# Altium schematic symbol library KM_ALTIUM.SchLib: 169 symbols
Pins are listed as number, name and electrical type; pins without a type are passive.

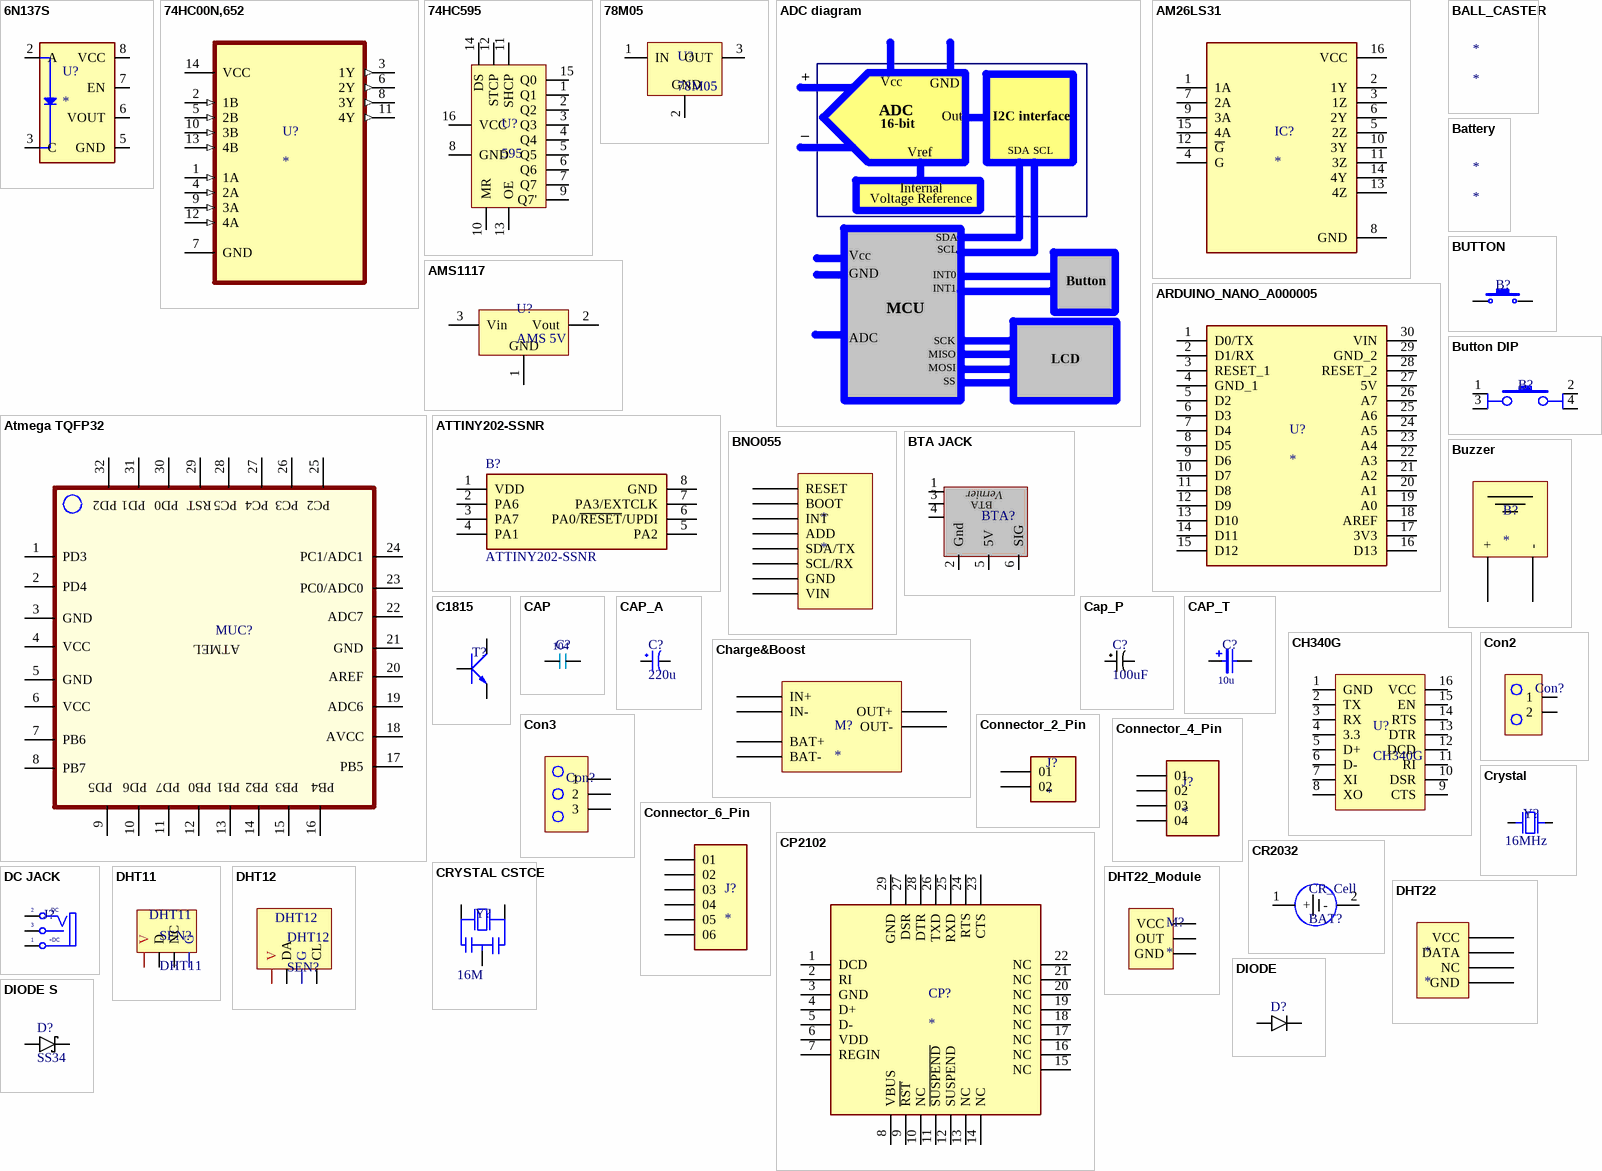
[diagram p0: symbols 6N137S to DIODE S]

## 6N137S
designator U?
Logic Output Optoisolator 15MBd Open Collector 5000Vrms 1 Channel 10kV/µs CMTI 8-SMD; MF: Lite-On Electronics; MP: 6N137S; SnapEDA_Link: https://www.snapeda.com/parts/6N137S/Applied+Avionics/view-part/?ref=snap; Package: SMD-8 Lite-On Inc.; Value: *; Check_prices: https://www.snapeda.com/parts/6N137S/Applied+Avionics/view-part/?ref=eda
footprint 6N137SMD
pins: 2 A, 3 C, 5 GND, 6 VOUT, 7 EN, 8 VCC

## 74HC00N,652
designator U?
NAND Gate IC 4 Channel - 14-DIP; MF: NXP USA; MP: 74HC00N,652; SnapEDA_Link: https://www.snapeda.com/parts/74HC00N,652/NXP+Semiconductors/view-part/?ref=snap; Package: DIP-14 NXP Semiconductors; Value: *; Check_prices: https://www.snapeda.com/parts/74HC00N,652/NXP+Semiconductors/view-part/?ref=eda
footprint DIP254P762X420-14
pins: 1 1A (in), 2 1B (in), 3 1Y (out), 4 2A (in), 5 2B (in), 6 2Y (out), 7 GND, 8 3Y (out), 9 3A (in), 10 3B (in), 11 4Y (out), 12 4A (in), 13 4B (in), 14 VCC (power)

## 74HC595
designator U?, comment 595
footprint SOP16
pins: 1 Q1, 2 Q2, 3 Q3, 4 Q4, 5 Q5, 6 Q6, 7 Q7, 8 GND, 9 Q7', 10 MR, 11 SHCP, 12 STCP, 13 OE, 14 DS, 15 Q0, 16 VCC

## 78M05
designator U?
footprint TO252
pins: 1 IN, 2 GND, 3 OUT

## ADC diagram
designator D?, comment Dia_ADC  (value not drawn)
pins: 3 Vcc, 3 Vcc, 3 Vcc, 3 Vcc, 3 Vcc, 3 Vcc, 3 Vcc, 3 Vcc, 4 Vref, 5 Out, 5 Out, + 1, - 2
text: GND; ADC; I2C interface; 16-bit; _; SDA; SCL; Internal; Voltage Reference; INT0; Button; INT1; MCU; SCK; MISO; LCD; MOSI; SS

## AM26LS31
designator IC?
AM26LS31; Supplier 1: Mouser; Supplier Part Number 1: 595-AM26LS31CDRE4
footprint SOIC127P600X175-16N
pins: 1 1A, 2 1Y, 3 1Z, 4 G, 5 2Z, 6 2Y, 7 2A, 8 GND (power), 9 3A, 10 3Y, 11 3Z, 12 ~{G}, 13 4Z, 14 4Y, 15 4A, 16 VCC (power)

## AMS1117
designator U?, comment AMS 5V
footprint TO252
footprint SOT223
pins: 1 gnd, 2 Vout, 3 Vin
text: GND

## ARDUINO_NANO_A000005
designator U?
ATSAMD21G18A Arduino Nano 33 IoT series ARMÂ® CortexÂ®-M0+ MCU 32-Bit Embedded Evaluation Board; MP: ARDUINO NANO A000005; SnapEDA_Link: https://www.snapeda.com/parts/ARDUINO%20NANO%20A000005/Arduino/view-part/?ref=snap; Package: Non-Standard Arduino; Value: *; MF: Arduino; Check_prices: https://www.snapeda.com/parts/ARDUINO%20NANO%20A000005/Arduino/view-part/?ref=eda
footprint MODULE_ARDUINO_NANO_A000005
pins: 1 D0/TX, 2 D1/RX, 3 RESET_1, 4 GND_1, 5 D2, 6 D3, 7 D4, 8 D5, 9 D6, 10 D7, 11 D8, 12 D9, 13 D10, 14 D11, 15 D12, 16 D13, 17 3V3, 18 AREF, 19 A0, 20 A1, 21 A2, 22 A3, 23 A4, 24 A5, 25 A6, 26 A7, 27 5V, 28 RESET_2, 29 GND_2, 30 VIN

## Atmega TQFP32
designator MUC?, comment atmel  (value not drawn)
footprint TQFP32
pins: 1 PD3, 2 PD4, 3 GND, 4 VCC, 5 GND, 6 VCC, 7 PB6, 8 PB7, 9 PD5, 10 PD6, 11 PD7, 12 PB0/8, 13 PB1/9, 14 PB2/10, 15 PB3/11, 16 PB4/12, 17 PB5, 18 AVCC, 19 ADC6, 20 AREF, 21 GND, 22 ADC7, 23 PC0/ADC0, 24 PC1/ADC1, 25 PC2, 26 PC3, 27 PC4, 28 PC5, 29 RST, 30 PD0/RX, 31 PD1/TX, 32 PD2
text: PD1; PD0; ATMEL; PB0; PB1; PB2; PB3; PB4

## ATTINY202-SSNR
designator B?
8-bit Microcontrollers - MCU 20MHz, 2KB, SOIC8, Ind 105C, Green, T&R; Manufacturer_Name: Microchip; Geometry.Height: 1.75mm; Manufacturer_Part_Number: ATTINY202-SSNR; Mouser Part Number: 579-ATTINY202-SSNR; Mouser Price/Stock: https://www.mouser.co.uk/ProductDetail/Microchip-Technology/ATTINY202-SSNR?qs=y6ZabgHbY%252Bx90fzudZ0SuA%3D%3D; Arrow Part Number: ATTINY202-SSNR; Arrow Price/Stock: https://www.arrow.com/en/products/attiny202-ssnr/microchip-technology?utm_currency=USD&region=nac; Datasheet Link: http://ww1.microchip.com/downloads/en/DeviceDoc/ATtiny202-402-AVR-MCU-with-Core-Independent-Peripherals_and-picoPower-40001969A.pdf
footprint SOIC127P600X175-8N
pins: 1 VDD, 2 PA6, 3 PA7, 4 PA1, 5 PA2, 6 PA0/~{RESET}/UPDI, 7 PA3/EXTCLK, 8 GND

## BALL_CASTER
designator *
footprint Ball_caster

## Battery
designator *
footprint Lithium

## BNO055
designator *
footprint bno055
pins: ADD, BOOT, GND, INT, RESET, SCL SCL/RX, SDA SDA/TX, VIN

## BTA JACK
designator BTA?  (value not drawn)
footprint BTA
pins: 1, 2 Gnd, 3, 4, 5 5V, 6 SIG
text: Vernier; BTA

## BUTTON
designator B?
footprint BUTTON SM
footprint BUTTON 3x4x2
footprint BUTTON Right DIP
pins: 1, 2

## Button DIP
designator B?, comment Button  (value not drawn)
footprint Button 4 DIP
pins: 1, 2, 3, 4

## Buzzer
designator B?
footprint Buzzer_9mm (5.5x9mm)
footprint Buzzer_12mm
pins: +, -

## C1815
designator T?  (value not drawn)
footprint SOT23-3
footprint TO-92
pins: 1 B, 2 E, 3 C

## CAP
designator C?, comment 104
Value: 104
footprint CAP 0805
footprint CAP 0603
footprint CAP 1206
footprint CAP 0402
footprint CAPC3216X100N (Chip Capacitor, Body 3.2x1.6mm, 1.0mm H, EIA 1206, IPC Medium Density)
footprint CAPC3216X175N (Chip Capacitor, Body 3.2x1.6mm, 1.75mm H, EIA 1206, IPC Medium Density)
footprint CAPC3216X180N (Chip Capacitor, Body 3.2x1.6mm, 1.8mm H, EIA 1206, IPC Medium Density)
footprint CAPC500P450250X550 (TDK FK24 radial ceramic capacitor)
pins: 1, 2

## CAP_A
designator C?, comment 220u
Value: 220u
footprint CAP_A SIZE_F
footprint CAP_A SIZE_E
footprint CAP_A SIZE_G
footprint CAP_ELEC_5x5.7 (Capacitor, polarized, aluminum can; 5x5.7mm DxH)
footprint CAP_ELEC_6.3x4.2 (Capacitor, polarized, aluminum can; 6.3x4.2mm DxH)
footprint CAP_ELEC_SIZE_H13 (Capacitor, polarized, aluminum can; 12.5x13.5mm DxH)
pins: 1, 2

## Cap_P
designator C?, comment 100uF
Value: 100uF
footprint CAPAE250P680X1220_FLAT2
footprint CAP 5x11
footprint CAP_10X16
footprint super capacitor (KVR-5R0V155-R)
footprint CAPE10.0MM_Rad_30x45mm (10mm Pitch Radial Capacitor)
footprint CAPE3.5mm
footprint CAPE_5x11x2LS_RA (Capacitor, electrolytic, radial can, laid over)
footprint CAPAE200P550X1200_FLAT1
footprint CAPAE200P550X1200_FLAT2
footprint CAPAE250P680X1220_FLAT1
footprint CAPAE250P680X1220_VERT
footprint CAPE3.5-5.0MM_Rad_10x14mm (3.5 & 5.0mm Pitch Radial Capacitor 10x14mm DxH)
footprint CAPPRD350W60D800H1150
pins: 1, 2

## CAP_T
designator C?, comment 10u
Value: 10u
footprint CAP_T 3216 (1208)
footprint CAP_T 3528
footprint CAP_T 6032
footprint CAP_T 7343
pins: 1, 2

## CH340G
designator U?
footprint SOP16
pins: 1 GND, 2 TX, 3 RX, 4 3.3, 5 D+, 6 D-, 7 XI, 8 XO, 9 CTS, 10 DSR, 11 RI, 12 DCD, 13 DTR, 14 RTS, 15 EN, 16 VCC

## Charge&Boost
designator M?
footprint Charge&Boost
pins: BAT+, BAT-, IN+, IN-, OUT+, OUT-

## Con2
designator Con?  (value not drawn)
footprint Terminal - KF396
pins: 1, 2

## Con3
designator Con?  (value not drawn)
footprint Terminal- 3- 508
footprint DEGSON_3.81_3P (DEGSON)
pins: 1, 2, 3

## Connector_2_Pin
designator J?
Pluggable Header 3.81mm 16AWG 160V 8A 2 Position COMBICON MC Series | Phoenix Contact 1803277; SnapEDA_Link: https://www.snapeda.com/parts/1803277/Phoenix+Contact/view-part/?ref=snap; Package: None; Value: *; MF: Phoenix Contact; MP: 1803277; Check_prices: https://www.snapeda.com/parts/1803277/Phoenix+Contact/view-part/?ref=eda; Supplier 1: Arrow Electronics; Supplier Part Number 1: 1803277
footprint PHOENIX_1803277
footprint DEGSON_3.81_2P (2P)
pins: 01, 02

## Connector_4_Pin
designator J?
Pluggable Header 3.81mm 16AWG 160V 8A 4 Position COMBICON MC Series | Phoenix Contact 1803293; SnapEDA_Link: https://www.snapeda.com/parts/1803293/Phoenix+Contact/view-part/?ref=snap; Package: None; Value: *; MF: Phoenix Contact; MP: 1803293; Check_prices: https://www.snapeda.com/parts/1803293/Phoenix+Contact/view-part/?ref=eda
footprint PHOENIX_1803293
footprint DEGSON_3.81_4P (DEGSON)
pins: 01, 02, 03, 04

## Connector_6_Pin
designator J?
Pluggable Header 3.81mm 16AWG 160V 8A 6 Position COMBICON MC Series | Phoenix Contact 1803316; SnapEDA_Link: https://www.snapeda.com/parts/1803316/Phoenix+Contact/view-part/?ref=snap; Package: None; Value: *; MF: Phoenix Contact; MP: 1803316; Check_prices: https://www.snapeda.com/parts/1803316/Phoenix+Contact/view-part/?ref=eda; Supplier 1: Arrow Electronics; Supplier Part Number 1: 1803316
footprint PHOENIX_1803316
pins: 01, 02, 03, 04, 05, 06

## CP2102
designator CP?
Chip
footprint CP2102 (QFN-28)
pins: 1 DCD, 2 RI, 3 GND, 4 D+, 5 D-, 6 VDD, 7 REGIN, 8 VBUS, 9 ~{RST}, 10 NC, 11 ~{SUSPEND}, 12 SUSPEND, 13 NC, 14 NC, 15 NC, 16 NC, 17 NC, 18 NC, 19 NC, 20 NC, 21 NC, 22 NC, 23 CTS, 24 RTS, 25 RXD, 26 TXD, 27 DSR, 28 DTR, 29 GND

## CR2032
designator CR_Cell, comment BAT?
footprint CR2032 SM002
pins: 1 +, 2 -

## Crystal
designator Y?  value 16MHz  (hidden comment: Crystal)
footprint SM3215
footprint SM5032
pins: 1 IN, 2 OUT

## CRYSTAL CSTCE
designator Y?, comment value 16M  (hidden comment: Crystal_CSTCE)
footprint CRYSTAL CSTCE
pins: 1, 2, 3

## DC JACK
designator J?, comment DC 5.5  (value not drawn)
footprint DC 5.5
pins: 1 T "Tip", 2 TN "Tip Normal (Break Contact)", 3 S (power) "Sleeve (Ground)"
text: -DC; +DC

## DHT11
designator SEN?
footprint DHT11
pins: 1 V, 2 D, 3 NC, 4 G

## DHT12
designator DHT12, comment SEN?
footprint DHT11
pins: 1 V, 2 DA, 3 G, 4 CL

## DHT22
designator *
footprint DHT22 (AM2302)
pins: 1 VCC, 2 DATA, 3 NC, 4 GND

## DHT22_Module
designator M?
footprint DHT22_Module
pins: 1 GND, 2 OUT, 3 VCC

## DIODE
designator D?  (value not drawn)
footprint SOD 123
footprint SOD 323
footprint SOD80-1206
footprint BAT54
footprint 1N4148
pins: A, K

## DIODE S
designator D?, comment SS34
footprint DO214AC-SMA
footprint DO214AA-SMB
footprint DO214AB-SMC
pins: A, K

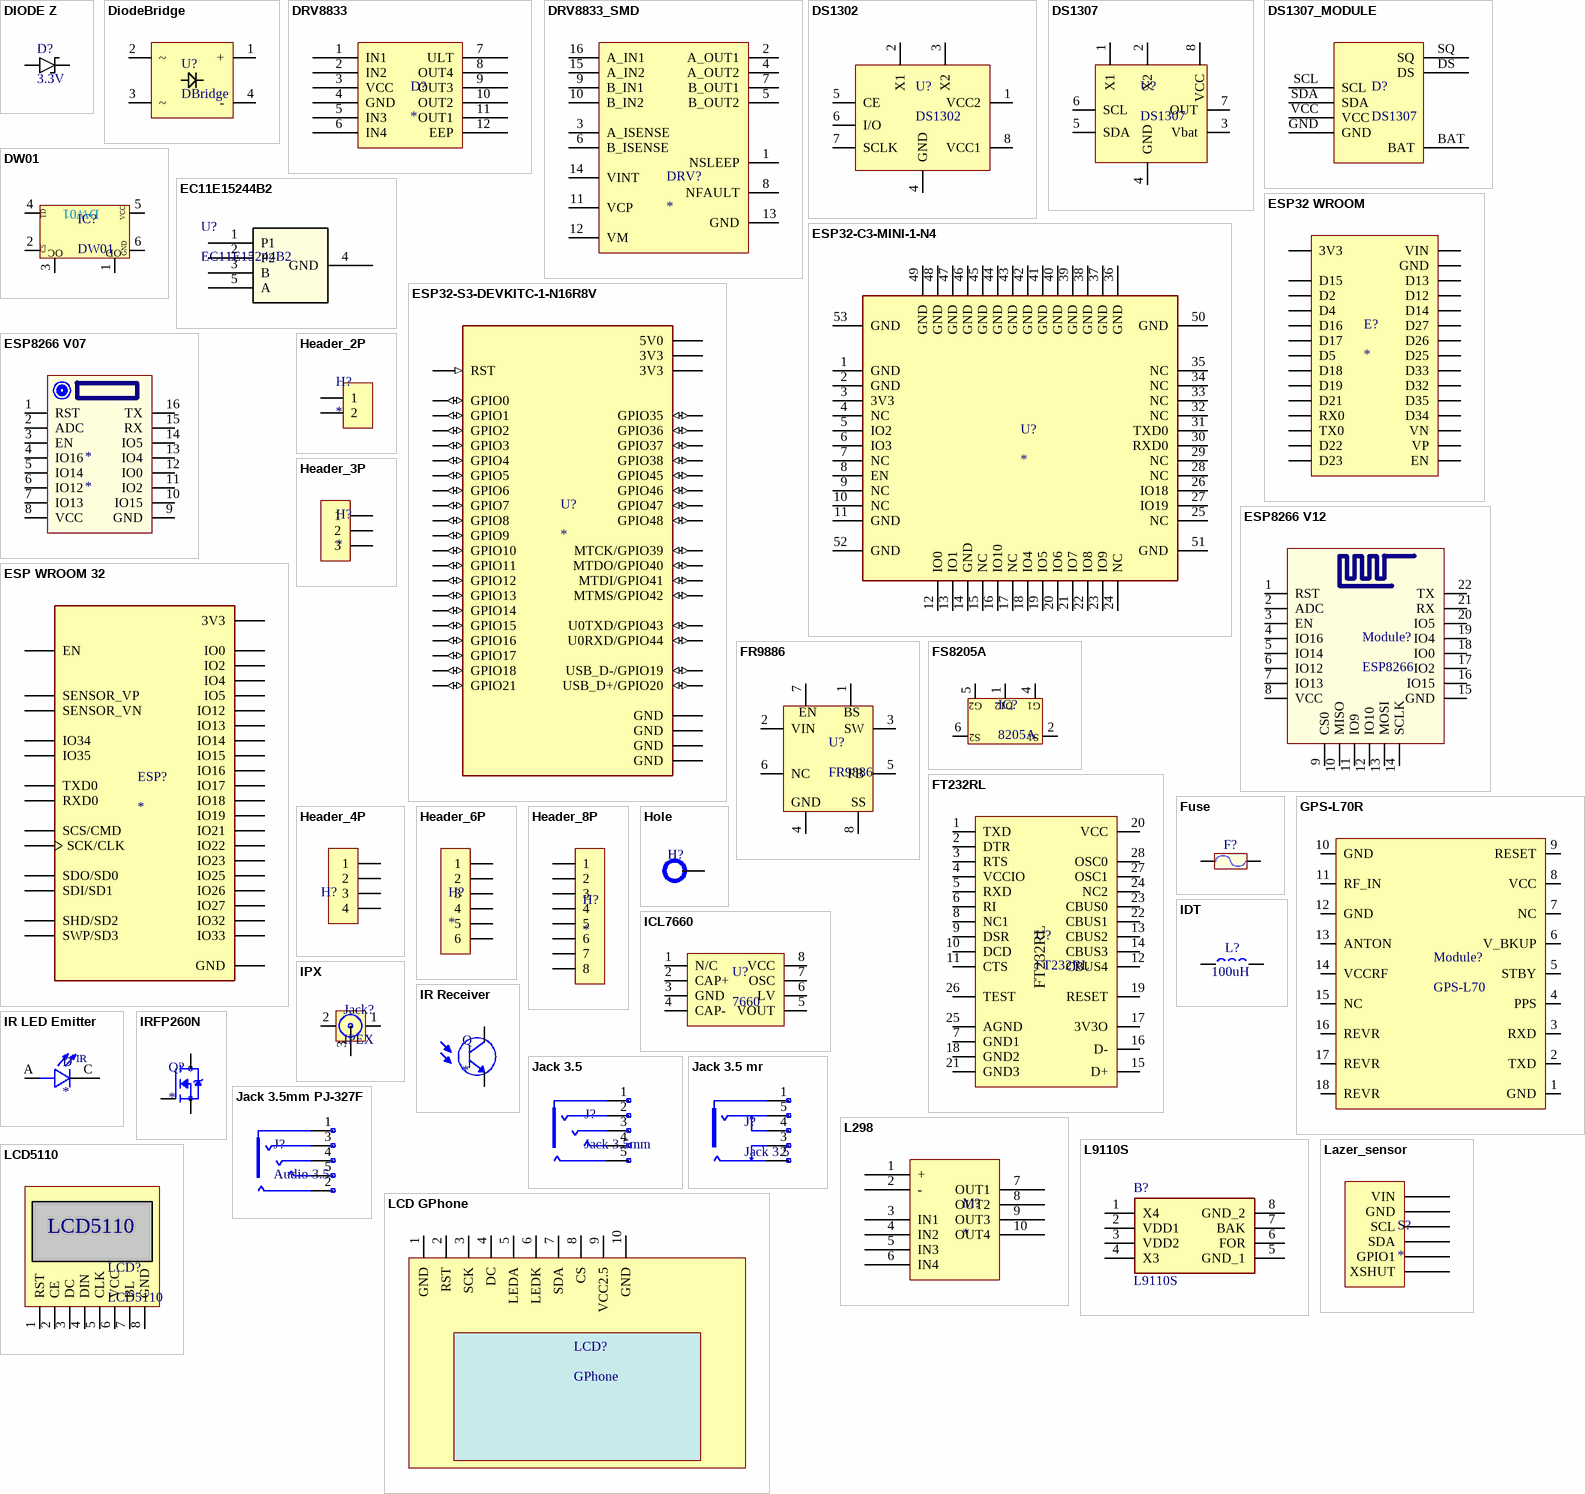
[diagram p1: symbols DIODE Z to LCD GPhone]

## DIODE Z
designator D?, comment 3.3V
footprint DO213AB LL41
footprint DIOAD1060W70L435D230
pins: A, K

## DiodeBridge
designator U?, comment DBridge
footprint DiodeBridge
pins: 1 +, 2 ~, 3 ~, 4 -

## DRV8833
designator D?
Module
footprint DRV8833 (Module)
pins: 1 IN1, 2 IN2, 3 VCC, 4 GND, 5 IN3, 6 IN4, 7 ULT, 8 OUT4, 9 OUT3, 10 OUT2, 11 OUT1, 12 EEP

## DRV8833_SMD
designator DRV?
SMD / TSSOP16
footprint DRV8833 - duplicate (SMD, TSSOP16)
pins: 1 NSLEEP, 2 A_OUT1, 3 A_ISENSE, 4 A_OUT2, 5 B_OUT2, 6 B_ISENSE, 7 B_OUT1, 8 NFAULT, 9 B_IN1, 10 B_IN2, 11 VCP, 12 VM, 13 GND (power), 14 VINT, 15 A_IN2, 16 A_IN1

## DS1302
designator U?
footprint SOIC 8 (8-Pin Small Outline Integrated Circuit 1.27 mm Pitch, IPC Medium Density)
pins: 1 VCC2, 2 X1, 3 X2, 4 GND, 5 CE, 6 I/O, 7 SCLK, 8 VCC1

## DS1307
designator U?
footprint SOIC 8 (8-Pin Small Outline Integrated Circuit 1.27 mm Pitch, IPC Medium Density)
pins: 1 X1, 2 X2, 3 Vbat, 4 GND, 5 SDA, 6 SCL, 7 OUT, 8 VCC

## DS1307_MODULE
designator D?, comment DS1307
footprint DS1307-MODULE
pins: BAT, DS, GND, SCL, SDA, SQ, VCC

## DW01
designator IC?
footprint SOT23-6
pins: 1 OD, 2 CS, 3 OC, 4 TD, 5 VCC, 6 GND

## EC11E15244B2
designator U?
No Description Available; Manufacturer_Name: Alps Electric; Copyright: Copyright (C) 2025 Ultra Librarian. All rights reserved.; Manufacturer_Part_Number: EC11E15244B2; RefDes: RefDes; Type: Type
footprint ROTARY_EC11E_11P7X12_AAL
pins: 1 P1, 2 P2, 3 B, 4 GND, 5 A

## ESP32 WROOM
designator E?
Module
footprint ESP32 WROOM
pins: 3V3, D2, D4, D5, D12, D13, D14, D15, D16, D17, D18, D19, D21, D22, D23, D25, D26, D27, D32, D33, D34, D35, EN, GND, RX0, TX0, VIN, VN, VP

## ESP32-C3-MINI-1-N4
designator U?
MF: {'manufacturer': u'Espressif Systems'}; MP: ESP32-C3-MINI-1-N4; Package: None; Price: None; Value: *; Availability: Unavailable
footprint ESP32-C3-MINI-1-N4
pins: 1 GND (power), 2 GND (power), 3 3V3, 4 NC, 5 IO2, 6 IO3, 7 NC, 8 EN, 9 NC, 10 NC, 11 GND (power), 12 IO0, 13 IO1, 14 GND (power), 15 NC, 16 IO10, 17 NC, 18 IO4, 19 IO5, 20 IO6, 21 IO7, 22 IO8, 23 IO9, 24 NC, 25 NC, 26 IO18, 27 IO19, 28 NC, 29 NC, 30 RXD0, 31 TXD0, 32 NC, 33 NC, 34 NC, 35 NC, 36 GND (power), 37 GND (power), 38 GND (power), 39 GND (power), 40 GND (power), 41 GND (power), 42 GND (power), 43 GND (power), 44 GND (power), 45 GND (power), 46 GND (power), 47 GND (power), 48 GND (power), 49 GND (power), 50 GND (power), 51 GND (power), 52 GND (power), 53 GND (power)

## ESP32-S3-DEVKITC-1-N16R8V
designator U?
Development Boards & Kits - Wireless Gen-Purpose Dev Board, embeds ESP32-S3-WROOM-2-N16R8V, 16 MB Octal Flash, 8 MB Octal PSRAM, with Pin Header; MF: Espressif Systems; MP: ESP32-S3-DEVKITC-1-N16R8V; SnapEDA_Link: https://www.snapeda.com/parts/ESP32-S3-DEVKITC-1-N16R8V/Espressif+Systems/view-part/?ref=snap; Package: None; Value: *; Check_prices: https://www.snapeda.com/parts/ESP32-S3-DEVKITC-1-N16R8V/Espressif+Systems/view-part/?ref=eda
footprint XCVR_ESP32-S3-DEVKITC-1-N16R8V
pins: J1_1 3V3 (power), J1_2 3V3 (power), J1_3 RST (in), J1_4 GPIO4 (io), J1_5 GPIO5 (io), J1_6 GPIO6 (io), J1_7 GPIO7 (io), J1_8 GPIO15 (io), J1_9 GPIO16 (io), J1_10 GPIO17 (io), J1_11 GPIO18 (io), J1_12 GPIO8 (io), J1_13 GPIO3 (io), J1_14 GPIO46 (io), J1_15 GPIO9 (io), J1_16 GPIO10 (io), J1_17 GPIO11 (io), J1_18 GPIO12 (io), J1_19 GPIO13 (io), J1_20 GPIO14 (io), J1_21 5V0 (power), J1_22 GND (power), J3_1 GND (power), J3_2 U0TXD/GPIO43 (io), J3_3 U0RXD/GPIO44 (io), J3_4 GPIO1 (io), J3_5 GPIO2 (io), J3_6 MTMS/GPIO42 (io), J3_7 MTDI/GPIO41 (io), J3_8 MTDO/GPIO40 (io), J3_9 MTCK/GPIO39 (io), J3_10 GPIO38 (io), J3_11 GPIO37 (io), J3_12 GPIO36 (io), J3_13 GPIO35 (io), J3_14 GPIO0 (io), J3_15 GPIO45 (io), J3_16 GPIO48 (io), J3_17 GPIO47 (io), J3_18 GPIO21 (io), J3_19 USB_D+/GPIO20 (io), J3_20 USB_D-/GPIO19 (io), J3_21 GND (power), J3_22 GND (power)

## ESP8266 V07
designator *
footprint ESP8266 12
pins: 1 RST, 2 ADC, 3 EN, 4 IO16, 5 IO14, 6 IO12, 7 IO13, 8 VCC, 9 GND, 10 IO15, 11 IO2, 12 IO0, 13 IO4, 14 IO5, 15 RX, 16 TX

## ESP8266 V12
designator Module?, comment ESP8266
footprint ESP8266 12
pins: 1 RST, 2 ADC, 3 EN, 4 IO16, 5 IO14, 6 IO12, 7 IO13, 8 VCC, 9 CS0, 10 MISO , 11 IO9, 12 IO10, 13 MOSI, 14 SCLK, 15 GND, 16 IO15, 17 IO2, 18 IO0, 19 IO4, 20 IO5, 21 RX, 22 TX

## ESP WROOM 32
designator ESP?
WROOM 32D
footprint ESP WROOM 32D
pins: 2 3V3, 3 EN, 4 SENSOR_VP, 5 SENSOR_VN, 6 IO34, 7 IO35, 8 IO32, 9 IO33, 10 IO25, 11 IO26, 12 IO27, 13 IO14, 14 IO12, 16 IO13, 17 SHD/SD2, 18 SWP/SD3, 19 SCS/CMD, 20 SCK/CLK, 21 SDO/SD0, 22 SDI/SD1, 23 IO15, 24 IO2, 25 IO0, 26 IO4, 27 IO16, 28 IO17, 29 IO5, 30 IO18, 31 IO19, 33 IO21, 34 RXD0, 35 TXD0, 36 IO22, 37 IO23, GND

## FR9886
designator U?
footprint SOIC 8 (8-Pin Small Outline Integrated Circuit 1.27 mm Pitch, IPC Medium Density)
pins: 1 BS, 2 VIN, 3 SW, 4 GND, 5 FB, 6 NC, 7 EN, 8 SS

## FS8205A
designator IC?, comment 8205A
footprint TSSOP8
pins: 1 D12, 2 S1, 3 S1 hidden to 2, 4 G1, 5 G2, 6 S2, 7 hidden to 6, 8

## FT232RL
designator U?
footprint SSOP28
pins: 1 TXD, 2 DTR, 3 RTS, 4 VCCIO, 5 RXD, 6 RI, 7 GND1, 8 NC1, 9 DSR, 10 DCD, 11 CTS, 12 CBUS4, 13 CBUS2, 14 CBUS3, 15 D+, 16 D-, 17 3V3O, 18 GND2, 19 RESET, 20 VCC, 21 GND3, 22 CBUS1, 23 CBUS0, 24 NC2, 25 AGND, 26 TEST, 27 OSC1, 28 OSC0

## Fuse
designator F?, comment FUSE  (value not drawn)
footprint fuse 0805
footprint Fuse 1812
footprint RES_1000JA100_VIS
footprint Fuse PTC (1206 1A 6V PTC SMD)
pins: 1, 2

## GPS-L70R
designator Module?, comment GPS-L70
footprint GPS-l70
pins: 1 GND, 2 TXD, 3 RXD, 4 PPS, 5 STBY, 6 V_BKUP, 7 NC, 8 VCC, 9 RESET, 10 GND, 11 RF_IN, 12 GND, 13 ANTON, 14 VCCRF, 15 NC, 16 REVR, 17 REVR, 18 REVR

## Header_2P
designator H?
footprint 2P_1.25_V (1.25)
footprint 2P_2.0_SMD_H (2P)
footprint 2P_2.54_SMD_H
footprint 2P_2.54_V
footprint 2P_1.5_V
footprint JUMP_2_V (2.54)
pins: 1, 2

## Header_3P
designator H?
footprint 3P_2.54_V
footprint 3P_1.25_V
footprint 3P_1.5_V
footprint JUMP_3_V (2.54)
pins: 1, 2, 3

## Header_4P
designator H?
footprint 4P_2.54_H
footprint 4P_2.54_V (2.54mm)
footprint 4P_1.25_V
footprint 4P_1.5_V
footprint JUMP_4_V (2.54)
pins: 1, 2, 3, 4

## Header_6P
designator H?
footprint 6P_1.25_V
footprint 6P_2.0_V (2.0mm)
footprint 6P_2.54_V
footprint 6P_2.54
footprint 6P_1.5_V
pins: 1, 2, 3, 4, 5, 6

## Header_8P
designator H?
footprint 8P_2.54_V
pins: 1, 2, 3, 4, 5, 6, 7, 8

## Hole
designator H?  (value not drawn)
footprint Hole 3.5
pins: 1

## ICL7660
designator U?, comment 7660
footprint SOIC 8 (8-Pin Small Outline Integrated Circuit 1.27 mm Pitch, IPC Medium Density)
pins: 1 N/C, 2 CAP+, 3 GND, 4 CAP-, 5 VOUT, 6 LV, 7 OSC, 8 VCC

## IDT
designator L?, comment 100uH
Value: 100uH
footprint IDUCTOR SM 0805
footprint CDRH104
footprint CDRH127
footprint 5D28
footprint IHLP 2525
footprint INDUCTOR 0630
footprint IDT0406 (0406+0507)
pins: 1, 2

## IPX
designator Jack?, comment IPEX
footprint IPX
pins: 1 G, 2 G, 3 S

## IR LED Emitter
designator D
Infrared _IR_ Emitter 3mm; MF: OSRAM Opto; Price: None; Value: *; Package: Radial Osram Opto; Availability: Unavailable; SnapEDA_Link: https://www.snapeda.com/parts/SFH%204545/OSRAM%20Opto%20Semiconductors%20Inc./view-part/78935/?ref=snap; MP: SFH 4545
footprint IR Emmiter (3mm)
pins: A, C
text: IR

## IR Receiver
designator Q
Phototransistor 925nm Top View Radial, 3mm Dia _T-1_; MP: TEFT4300; MF: Vishay Semiconductor; Package: Radial Vishay; Price: None; Availability: Unavailable; Value: *; SnapEDA_Link: https://www.snapeda.com/parts/TEFT4300/Vishay%20Semiconductor%20Opto%20Division/view-part/213585/?ref=snap
footprint IR Receive (3mm)
pins: C, E

## IRFP260N
designator Q?
N-Channel 200V 50A (Tc) 300W (Tc) Through Hole TO-247AC; MP: IRFP260N; MF: Infineon Technologies; Check_prices: https://www.snapeda.com/parts/IRFP260N/Infineon%20Technologies/view-part/2777552/?ref=eda; SnapEDA_Link: https://www.snapeda.com/parts/IRFP260N/Infineon%20Technologies/view-part/2777552/?ref=snap; Availability: Unavailable; Value: *; Price: None; Package: TO-247-3 Infineon Technologies
footprint IRFP260N
pins: 1 G, 2 D, 3 S

## Jack 3.5
designator J?, comment Jack 3.5mm
footprint jackAudip5
pins: 1, 2, 3, 4, 5

## Jack 3.5 mr
designator J?, comment Jack 3.5
footprint PJ-307
pins: 1, 2, 3, 4, 5

## Jack 3.5mm PJ-327F
designator J?, comment Audio 3.5
footprint PJ-327
pins: 1, 2, 3, 4, 5

## L298
designator M?
Module Mini
footprint L298 (Module)
pins: 1 +, 2 -, 3 IN1, 4 IN2, 5 IN3, 6 IN4, 7 OUT1, 8 OUT2, 9 OUT3, 10 OUT4

## L9110S
designator B?
Motor Drivers SOP-8_150mil RoHS; Manufacturer_Name: Wuxi I-core Elec; Geometry.Height: 1.75mm; Manufacturer_Part_Number: L9110S; Mouser Part Number: *; Mouser Price/Stock: *; Arrow Part Number: *; Arrow Price/Stock: *; Datasheet Link: https://datasheet.lcsc.com/szlcsc/Wuxi-Zhongwei-Aisin-Elec-L9110S_C85174.pdf
footprint SOIC127P600X175-8N
pins: 1 X4, 2 VDD1, 3 VDD2, 4 X3, 5 GND_1, 6 FOR, 7 BAK, 8 GND_2

## Lazer_sensor
designator S?
VL53L0X (ToF-F) 940nm GY-VL53L0XV2 I2C
footprint Lazer_Sensor (VL53L0X (ToF-F) 940nm GY-VL53L0XV2 I2C)
pins: GND, GPIO1, SCL, SDA, VIN, XSHUT

## LCD5110
designator LCD?
footprint LCD5110
pins: 1 RST, 2 CE, 3 DC, 4 DIN, 5 CLK, 6 VCC, 7 BL, 8 GND

## LCD GPhone
designator LCD?, comment GPhone
footprint GPhome
pins: 1 GND, 2 RST, 3 SCK, 4 DC, 5 LEDA, 6 LEDK, 7 SDA, 8 CS, 9 VCC2.5, 10 GND

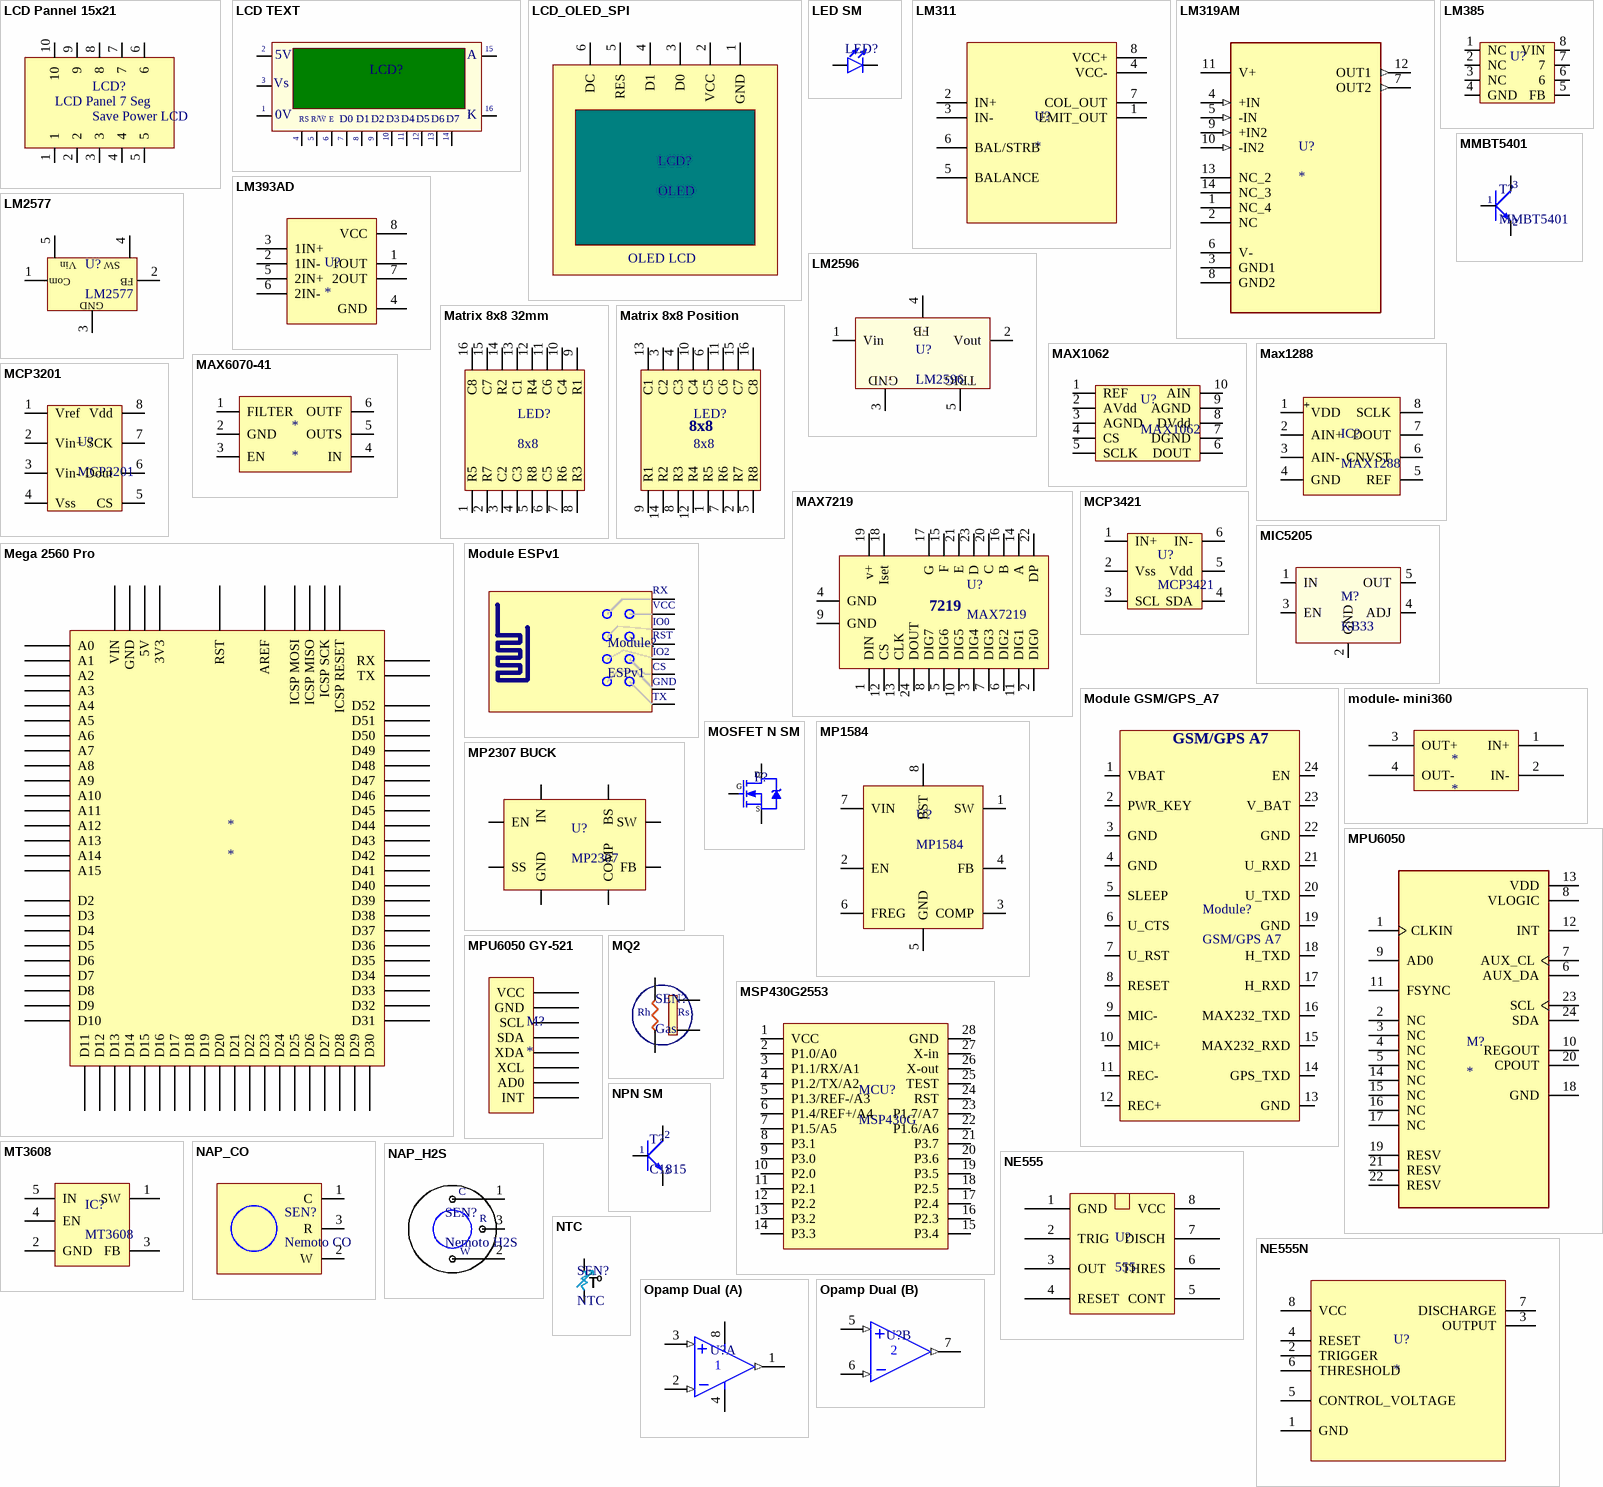
[diagram p2: symbols LCD Pannel 15x21 to Opamp Dual]

## LCD Pannel 15x21
designator LCD?, comment Save Power LCD
footprint LCD panel 15x21
pins: 1, 2, 3, 4, 5, 6, 7, 8, 9, 10
text: LCD Panel 7 Seg

## LCD TEXT
designator LCD?  (value not drawn)
footprint LCD 20X4
footprint LCD 16X2
footprint LCD 16X2 NODRILL
footprint LCD 20X4 NODRILL
pins: 1 GND, 2 VDD, 3 VEE, 4 RS, 5 R/~{W}, 6 ~{EN}, 7 D0, 8 D1, 9 D2, 10 D3, 11 D4, 12 D5, 13 D6, 14 D7, 15 A, 16 K
text: 5V; Vs; |; 0V; R/W; E

## LCD_OLED_SPI
designator LCD?, comment OLED
footprint LCD_Oled_0.96
pins: 1 GND, 2 VCC, 3 D0, 4 D1, 5 RES, 6 DC
text: OLED LCD

## LED SM
designator LED?, comment Green  (value not drawn)
Value: Green
footprint LED 0805 (LED SMD, Body 2.0x1.2mm, EIA 0805, IPC Medium Density)
footprint LED 0603
pins: A, K

## LM311
designator U?
High Speed, 30V, Differential Comparator With Strobes 8-PDIP 0 to 70; MF: Texas Instruments; MP: LM311PE4; Availability: In Stock; SnapEDA_Link: https://www.snapeda.com/parts/LM311PE4/Texas+Instruments/view-part/?ref=snap; Check_prices: https://www.snapeda.com/parts/LM311PE4/Texas+Instruments/view-part/?ref=eda; Price: None; Package: PDIP-8 Texas; Purchase-URL: https://pricing.snapeda.com/search/part/LM311PE4/?ref=eda; Value: *
footprint LM311PE
footprint LM311DG
pins: 1 EMIT_OUT, 2 IN+, 3 IN-, 4 VCC- (power), 5 BALANCE, 6 BAL/STRB, 7 COL_OUT, 8 VCC+ (power)

## LM319AM
designator U?
Dual high speed, high voltage comparator; MF: Texas Instruments; MP: LM319AM; SnapEDA_Link: https://www.snapeda.com/parts/LM319AM/Texas+Instruments/view-part/?ref=snap; Package: SOIC-14 Texas Instruments; Value: *; Check_prices: https://www.snapeda.com/parts/LM319AM/Texas+Instruments/view-part/?ref=eda
footprint SOIC127P620X175-14N
pins: 1 NC_4, 2 NC, 3 GND1, 4 +IN (in), 5 -IN (in), 6 V- (power), 7 OUT2 (out), 8 GND2, 9 +IN2 (in), 10 -IN2 (in), 11 V+ (power), 12 OUT1 (out), 13 NC_2, 14 NC_3

## LM385
designator U?  (value not drawn)
footprint SOIC 8
pins: 1 NC, 2 NC, 3 NC, 4 GND, 5 FB, 6, 7, 8 VIN

## LM393AD
designator U?
Precision dual differential comparator, industrial grade; MF: Texas Instruments; MP: LM393AD; SnapEDA_Link: https://www.snapeda.com/parts/LM393AD/Texas+Instruments/view-part/?ref=snap; Package: SOIC-8 Texas Instruments; Value: *; Check_prices: https://www.snapeda.com/parts/LM393AD/Texas+Instruments/view-part/?ref=eda
footprint SOIC127P599X175-8N
pins: 1 1OUT, 2 1IN-, 3 1IN+, 4 GND, 5 2IN+, 6 2IN-, 7 2OUT, 8 VCC

## LM2577
designator U?
footprint TO263-5
pins: 1 Com, 2 FB, 3 GND, 4 SW, 5 Vin

## LM2596
designator U?
footprint TO263-5
pins: 1 Vin, 2 Vout, 3 Groud, 4 FB, 5 TRIG
text: GND

## Matrix 8x8 32mm
designator LED?, comment 8x8
footprint Matrix 8x8 32mm
pins: 1 R5, 2 R7, 3 C2, 4 C3, 5 R8, 6 C5, 7 R6, 8 R3, 9 R1, 10 C4, 11 C6, 12 R4, 13 C1, 14 R2, 15 C7, 16 C8

## Matrix 8x8 Position
designator LED?, comment 8x8
footprint Matrix 8x8 32mm
pins: 1 R5, 2 R7, 3 C2, 4 C3, 5 R8, 6 C5, 7 R6, 8 R3, 9 R1, 10 C4, 11 C6, 12 R4, 13 C1, 14 R2, 15 C7, 16 C8

## MAX1062
designator U?
footprint uMAX10
pins: 1 REF, 2 AVdd, 3 AGND, 4 CS, 5 SCLK, 6 DOUT, 7 DGND, 8 DVdd, 9 AGND, 10 AIN

## Max1288
designator IC?, comment MAX1288
footprint TDFN 8 EP (MAX1288)
pins: 1 VDD, 2 AIN+, 3 AIN-, 4 GND, 5 REF, 6 CNVST, 7 DOUT, 8 SCLK
text: +

## MAX6070-41
designator *
footprint SOT23-6
pins: 1 FILTER, 2 GND, 3 EN, 4 IN, 5 OUTS, 6 OUTF

## MAX7219
designator U?
footprint WSO24
pins: 1 DIN, 2 DIG0, 3 DIG4, 4 GND, 5 DIG6, 6 DIG2, 7 DIG3, 8 DIG7, 9 GND, 10 DIG5, 11 DIG1, 12 CS, 13 CLK, 14 A, 15 F, 16 B, 17 G, 18 Iset, 19 v+, 20 C, 21 E, 22 DP, 23 D, 24 DOUT
text: 7219

## MCP3201
designator U?
footprint SOIC 8 (8-Pin Small Outline Integrated Circuit 1.27 mm Pitch, IPC Medium Density)
pins: 1 Vref, 2 Vin+, 3 Vin-, 4 Vss, 5 CS, 6 Dout, 7 SCK, 8 Vdd

## MCP3421
designator U?
footprint SOT23-6
pins: 1 IN+, 2 Vss, 3 SCL, 4 SDA, 5 Vdd, 6 IN-

## Mega 2560 Pro
designator *
footprint Mega 2560 Pro (Module)
pins: 3V3, 5V, A0, A1, A2, A3, A4, A5, A6, A7, A8, A9, A10, A11, A12, A13, A14, A15, AREF, D2, D3, D4, D5, D6, D7, D8, D9, D10, D11, D12, D13, D14, D15, D16, D17, D18, D19, D20, D21, D22, D23, D24, D25, D26, D27, D28, D29, D30, D31, D32, D33, D34, D35, D36, D37, D38, D39, D40, D41, D42, D43, D44, D45, D46, D47, D48, D49, D50, D51, D52, GND, MI ICSP MISO, MO ICSP MOSI, RS ICSP RESET, RST, RX, SCK ICSP SCK, TX, VIN

## MIC5205
designator M?, comment KB33
KB33-3.3
footprint MIC5205 (KB33-3.3)
pins: 1 IN, 2 GND, 3 EN, 4 ADJ, 5 OUT

## MMBT5401
designator T?
footprint SOT23-3
pins: 1 B, 2 E, 3 C

## Module ESPv1
designator Module?, comment ESPv1
footprint Header_4x2
pins: 1 RX, 2 VCC, 3 IO0, 4 RST, 5 IO2, 6 CHDP, 7 GND, 8 TX
text: CS

## Module GSM/GPS_A7
designator Module?, comment GSM/GPS A7
footprint MODULE A7
pins: 1 VBAT, 2 PWR_KEY, 3 GND, 4 GND, 5 SLEEP, 6 U_CTS, 7 U_RST, 8 RESET, 9 MIC-, 10 MIC+, 11 REC-, 12 REC+, 13 GND, 14 GPS_TXD, 15 MAX232_RXD, 16 MAX232_TXD, 17 H_RXD, 18 H_TXD, 19 GND, 20 U_TXD, 21 U_RXD, 22 GND, 23 V_BAT, 24 EN

## module- mini360
designator *
footprint MODULE-MINI360
pins: 1 IN+, 2 IN-, 3 OUT+, 4 OUT-

## MOSFET N SM
designator F?, comment IRF3709Z  (value not drawn)
footprint TO252
footprint MosFet SOT23
pins: 1 G, 2 D, 3 S

## MP1584
designator U?
footprint SOIC 8 (8-Pin Small Outline Integrated Circuit 1.27 mm Pitch, IPC Medium Density)
pins: 1 SW, 2 EN, 3 COMP, 4 FB, 5 GND, 6 FREG, 7 VIN, 8 BST

## MP2307 BUCK
designator U?, comment MP2307
footprint SOIC 8 (8-Pin Small Outline Integrated Circuit 1.27 mm Pitch, IPC Medium Density)
pins: 1 BS, 2 IN, 3 SW, 4 GND, 5 FB, 6 COMP, 7 EN, 8 SS

## MPU6050
designator M?
SMD
footprint MPU6050-A (SMD)
pins: 1 CLKIN, 2 NC, 3 NC, 4 NC, 5 NC, 6 AUX_DA, 7 AUX_CL, 8 VLOGIC, 9 AD0, 10 REGOUT, 11 FSYNC, 12 INT, 13 VDD, 14 NC, 15 NC, 16 NC, 17 NC, 18 GND, 19 RESV, 20 CPOUT, 21 RESV, 22 RESV, 23 SCL, 24 SDA

## MPU6050 GY-521
designator M?
MODULE
footprint MPU6050 GY-521 (mODULE)
pins: 1 VCC, 2 GND, 3 SCL, 4 SDA, 5 XDA, 6 XCL, 7 AD0, 8 INT

## MQ2
designator SEN?, comment Gas
footprint MQ2
pins: A Rs, B Rs, H1 Head, H2 Head
text: Rh

## MSP430G2553
designator MCU?, comment MSP430G
footprint TSSOP28
pins: 1 VCC, 2 P1.0/A0, 3 P1.1/RX/A1, 4 P1.2/TX/A2, 5 P1.3/REF-/A3, 6 P1.4/REF+/A4, 7 P1.5/A5, 8 P3.1, 9 P3.0, 10 P2.0, 11 P2.1, 12 P2.2, 13 P3.2, 14 P3.3, 15 P3.4, 16 P2.3, 17 P2.4, 18 P2.5, 19 P3.5, 20 P3.6, 21 P3.7, 22 P1.6/A6, 23 P1.7/A7, 24 RST, 25 TEST, 26 X-out, 27 X-in, 28 GND

## MT3608
designator IC?
footprint SOT23-6
pins: 1 SW, 2 GND, 3 FB, 4 EN, 5 IN

## NAP_CO
designator SEN?, comment Nemoto CO
footprint Nemoto_CO
pins: 1 C, 2 W, 3 R

## NAP_H2S
designator SEN?, comment Nemoto H2S
footprint NEMOTO_H2S
pins: 1 C, 2 W, 3 R

## NE555
designator U?, comment 555
footprint SOIC 8 (8-Pin Small Outline Integrated Circuit 1.27 mm Pitch, IPC Medium Density)
footprint DIP254P762X533-8
pins: 1 GND, 2 TRIG, 3 OUT, 4 RESET, 5 CONT, 6 THRES, 7 DISCH, 8 VCC

## NE555N
designator U?
555 Type, Timer/Oscillator (Single) IC 500kHz 8-DIP; MF: STMicroelectronics; MP: NE555N; SnapEDA_Link: https://www.snapeda.com/parts/NE555N/STMicroelectronics/view-part/?ref=snap; Availability: In Stock; Price: None; Value: *; Check_prices: https://www.snapeda.com/parts/NE555N/STMicroelectronics/view-part/?ref=eda; Package: DIP-8 STMicroelectronics; Purchase-URL: https://pricing.snapeda.com/search/part/NE555N/?ref=eda
footprint NE555PE
footprint NE555DG
pins: 1 GND, 2 TRIGGER, 3 OUTPUT, 4 RESET, 5 CONTROL_VOLTAGE, 6 THRESHOLD, 7 DISCHARGE, 8 VCC

## NPN SM
designator T?, comment C1815
footprint SOT23-3
pins: 1 B, 2 E, 3 C

## NTC
designator SEN?
footprint Header Shround 2p
pins: 1, 2
text: o; T

## Opamp Dual
designator U?, comment LM358  (value not drawn)
footprint SOIC 8 (8-Pin Small Outline Integrated Circuit 1.27 mm Pitch, IPC Medium Density)
footprint uMAX8
part A pins: 1 OUT (out), 2 IN- (in), 3 IN+ (in), 4 V- (power), 8 V+ (power)
part B pins: 5 IN+ (in), 6 IN- (in), 7 OUT (out)

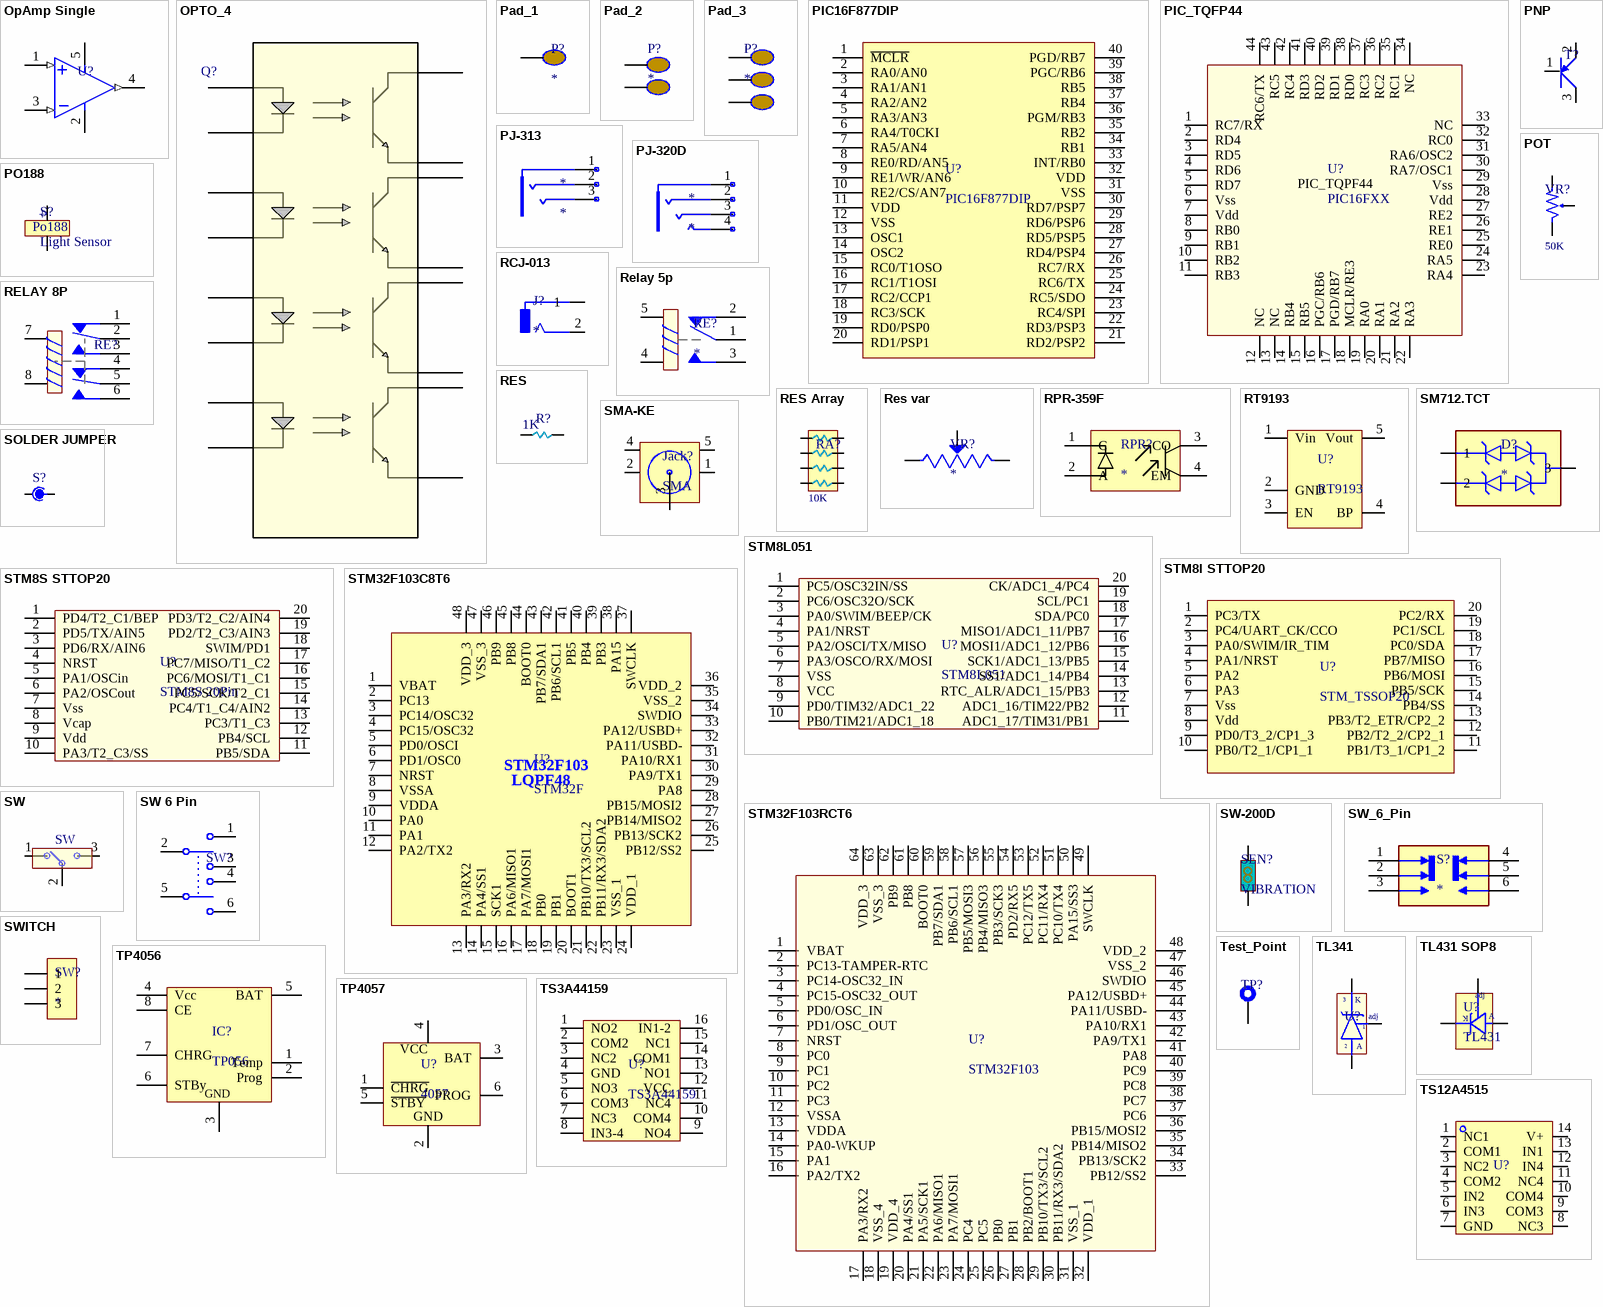
[diagram p3: symbols OpAmp Single to TS12A4515]

## OpAmp Single
designator U?, comment LM321  (value not drawn)
footprint SOT23-5
pins: 1 IN+ (in), 2 V- (power), 3 IN- (in), 4 OUT (out), 5 V+ (power)

## OPTO_4
designator Q?
No Description Available; Manufacturer_Name: Sharp; Manufacturer_Part_Number: PC847XJ0000F; Copyright: Copyright (C) 2026 Ultra Librarian. All rights reserved.; RefDes: RefDes; Type: Type
footprint PC847XJ0000F_SHP
footprint SOIC127P700X200-16N (SOIC, 16-Leads, Body 10,28x4,40mm, Pitch 1,27mm, IPC Medium Density)
pins: 1, 2, 3, 4, 5, 6, 7, 8, 9, 10, 11, 12, 13, 14, 15, 16

## Pad_1
designator P?
footprint Pad_1
pins: 1

## Pad_2
designator P?
footprint PAD_2_2.54
pins: 1, 2

## Pad_3
designator P?
footprint Pad_3_2.54
pins: 1, 2, 3

## PIC16F877DIP
designator U?
footprint DIP40
pins: 1 ~{MCLR}, 2 RA0/AN0, 3 RA1/AN1, 4 RA2/AN2, 5 RA3/AN3, 6 RA4/T0CKI, 7 RA5/AN4, 8 RE0/RD/AN5, 9 RE1/WR/AN6, 10 RE2/CS/AN7, 11 VDD, 12 VSS, 13 OSC1, 14 OSC2, 15 RC0/T1OSO, 16 RC1/T1OSI, 17 RC2/CCP1, 18 RC3/SCK, 19 RD0/PSP0, 20 RD1/PSP1, 21 RD2/PSP2, 22 RD3/PSP3, 23 RC4/SPI, 24 RC5/SDO, 25 RC6/TX, 26 RC7/RX, 27 RD4/PSP4, 28 RD5/PSP5, 29 RD6/PSP6, 30 RD7/PSP7, 31 VSS, 32 VDD, 33 INT/RB0, 34 RB1, 35 RB2, 36 PGM/RB3, 37 RB4, 38 RB5, 39 PGC/RB6, 40 PGD/RB7

## PIC_TQFP44
designator U?, comment PIC16FXX
footprint TQFP44
pins: 1 RC7/RX, 2 RD4, 3 RD5, 4 RD6, 5 RD7, 6 Vss, 7 Vdd, 8 RB0, 9 RB1, 10 RB2, 11 RB3, 12 NC, 13 NC, 14 RB4, 15 RB5, 16 PGC/RB6, 17 PGD/RB7, 18 MCLR/RE3, 19 RA0, 20 RA1, 21 RA2, 22 RA3, 23 RA4, 24 RA5, 25 RE0, 26 RE1, 27 RE2, 28 Vdd, 29 Vss, 30 RA7/OSC1, 31 RA6/OSC2, 32 RC0, 33 NC, 34 NC, 35 RC1, 36 RC2, 37 RC3, 38 RD0, 39 RD1, 40 RD2, 41 RD3, 42 RC4, 43 RC5, 44 RC6/TX
text: PIC_TQPF44

## PJ-313
designator *
footprint PJ-313
pins: 1, 2, 3

## PJ-320D
designator *
footprint PJ-320D
pins: 1, 2, 3, 4

## PNP
designator T?  (value not drawn)
footprint SOT23-3
pins: 1 B, 2 C, 3 E

## PO188
designator S?, comment Light Sensor
footprint Po188
pins: A 1, K 2
text: +; Po188

## POT
designator VR?, comment 50K
Value: 50K
footprint VR SM 3030
footprint VR 1
footprint pot 3296p
pins: 1, 2, 3

## RCJ-013
designator J?
1 Port, Right Angle, Through Hole, Shielded, RCA Jack Connector; MF: CUI Devices; MP: RCJ-013; Purchase-URL: https://pricing.snapeda.com/search/part/RCJ-013/?ref=eda; Package: None; Availability: In Stock; Value: *; Check_prices: https://www.snapeda.com/parts/RCJ-013/CUI+Devices/view-part/?ref=eda; CUI_purchase_URL: https://www.cuidevices.com/product/interconnect/connectors/rca-connectors/rcj-01-series?utm_source=snapeda.com&utm_medium=referral&utm_campaign=snapedaBOM; Price: None; SnapEDA_Link: https://www.snapeda.com/parts/RCJ-013/CUI+Devices/view-part/?ref=snap
footprint CUI_RCJ-013
pins: 1A 1, 1B 1, 1C 1, 2

## Relay 5p
designator RE?
footprint Relay 5p
pins: 1, 2, 3, 4, 5

## RELAY 8P
designator RE?  (value not drawn)
footprint RELAY 8P OMRON
footprint Relay G6S-2
footprint RELAY 8P SONGLE
pins: 1, 2, 3, 4, 5, 6, 7, 8

## RES
designator R?, comment 1K
Value: 1K
footprint RES 0805
footprint RES 0603
footprint RES 1206
footprint R5WD (R5W , 2 pin, 300 x 600 mil)
footprint R5W (R5W , 2 pin, 400 x 950mil)
footprint R3W (R2W, 2 pin, 700mil)
footprint R2W (R2W, 2 pin, 700mil)
footprint R1/8W (R 1/8W, 2 pin, 300mil)
footprint R1/4WD (R 1/4W, 2 Pin, 150mil)
footprint R1/4W7 (R 1/4W, 2 Pin, 600mil)
footprint R1/4W4 (R 1/4W, 2 Pin, 400mil)
footprint R1/4W3 (R 1/4W, 2 Pin, 350mil)
footprint R1/4W1 (R 1/4W, 2 Pin, 150mil)
footprint R1/4W (R 1/4W, 2 Pin, 350mil)
footprint R1/2W (R 1/2W, 2 pin, 300mil)
pins: 1, 2

## RES Array
designator RA?, comment 10K
Value: 10K
footprint RES Array 4X0603
pins: 1, 2, 3, 4, 5, 6, 7, 8

## Res var
designator VR?
5 kOhms 0.5W, 1/2W PC Pins Through Hole Trimmer Potentiometer Cermet 25.0 Turn Top Adjustment; MF: Bourns; MP: 3296W-1-502; Package: SOT-23-5 Bourns; SnapEDA_Link: https://www.snapeda.com/parts/3296W-1-502/Bourns/view-part/?ref=snap; Purchase-URL: https://pricing.snapeda.com/search/part/3296W-1-502/?ref=eda; Check_prices: https://www.snapeda.com/parts/3296W-1-502/Bourns/view-part/?ref=eda; Price: None; Availability: In Stock; Value: *
footprint TRIM_3296W-1-502
footprint Res var (RM-065)
footprint RES VARIABLE (3X3)
pins: 1 CCW, 2 WIPER, 3 CW

## RPR-359F
designator RPR?
RPR359F
footprint RPR-359F (IR led)
footprint RPR_359F
pins: 1 C, 2 A, 3 CO, 4 EM

## RT9193
designator U?
footprint SOT23-5
pins: 1 Vin, 2 GND, 3 EN, 4 BP, 5 Vout

## SM712.TCT
designator D?
SM Series 12 V 400 W Asymmetrical TVS Diode for Extended Common-Mode - SOT-23; MF: Semtech Corporation; MP: SM712.TCT; SnapEDA_Link: https://www.snapeda.com/parts/SM712.TCT/Semtech/view-part/?ref=snap; Package: SOT-23 Semtech; Value: *; Check_prices: https://www.snapeda.com/parts/SM712.TCT/Semtech/view-part/?ref=eda
footprint SM712.TCT
pins: 1, 2, 3

## SMA-KE
designator Jack?, comment SMA
footprint SMA
pins: 1 G, 2 G, 3 S, 4 G, 5 G

## SOLDER JUMPER
designator S?, comment SJ  (value not drawn)
footprint SJ
pins: 1, 2

## STM8L051
designator U?
footprint TSSOP20
pins: 1 PC5/OSC32IN/SS, 2 PC6/OSC32O/SCK, 3 PA0/SWIM/BEEP/CK, 4 PA1/NRST, 5 PA2/OSCI/TX/MISO, 6 PA3/OSCO/RX/MOSI, 7 VSS, 8 VCC, 9 PD0/TIM32/ADC1_22, 10 PB0/TIM21/ADC1_18, 11 ADC1_17/TIM31/PB1, 12 ADC1_16/TIM22/PB2, 13 RTC_ALR/ADC1_15/PB3, 14 SS1/ADC1_14/PB4, 15 SCK1/ADC1_13/PB5, 16 MOSI1/ADC1_12/PB6, 17 MISO1/ADC1_11/PB7, 18 SDA/PC0, 19 SCL/PC1, 20 CK/ADC1_4/PC4

## STM8l STTOP20
designator U?, comment STM_TSSOP20
footprint TSSOP20
pins: 1 PC3/TX, 2 PC4/UART_CK/CCO, 3 PA0/SWIM/IR_TIM, 4 PA1/NRST, 5 PA2, 6 PA3, 7 Vss, 8 Vdd, 9 PD0/T3_2/CP1_3, 10 PB0/T2_1/CP1_1, 11 PB1/T3_1/CP1_2, 12 PB2/T2_2/CP2_1, 13 PB3/T2_ETR/CP2_2, 14 PB4/SS, 15 PB5/SCK, 16 PB6/MOSI, 17 PB7/MISO, 18 PC0/SDA, 19 PC1/SCL, 20 PC2/RX

## STM8S STTOP20
designator U?, comment STM8S 20Pin
footprint TSSOP20
pins: 1 PD4/T2_C1/BEP, 2 PD5/TX/AIN5, 3 PD6/RX/AIN6, 4 NRST, 5 PA1/OSCin, 6 PA2/OSCout, 7 Vss, 8 Vcap, 9 Vdd, 10 PA3/T2_C3/SS, 11 PB5/SDA, 12 PB4/SCL, 13 PC3/T1_C3, 14 PC4/T1_C4/AIN2, 15 PC5/SCK/T2_C1, 16 PC6/MOSI/T1_C1, 17 PC7/MISO/T1_C2, 18 SWIM/PD1, 19 PD2/T2_C3/AIN3, 20 PD3/T2_C2/AIN4

## STM32F103C8T6
designator U?, comment STM32F
footprint LQPF48
pins: 1 VBAT, 2 PC13, 3 PC14/OSC32, 4 PC15/OSC32, 5 PD0/OSCI, 6 PD1/OSC0, 7 NRST, 8 VSSA, 9 VDDA, 10 PA0, 11 PA1, 12 PA2/TX2, 13 PA3/RX2, 14 PA4/SS1, 15 SCK1, 16 PA6/MISO1, 17 PA7/MOSI1, 18 PB0, 19 PB1, 20 BOOT1, 21 PB10/TX3/SCL2, 22 PB11/RX3/SDA2, 23 VSS_1, 24 VDD_1, 25 PB12/SS2, 26 PB13/SCK2, 27 PB14/MISO2, 28 PB15/MOSI2, 29 PA8, 30 PA9/TX1, 31 PA10/RX1, 32 PA11/USBD-, 33 PA12/USBD+, 34 SWDIO, 35 VSS_2, 36 VDD_2, 37 SWCLK, 38 PA15, 39 PB3, 40 PB4, 41 PB5, 42 PB6/SCL1, 43 PB7/SDA1, 44 BOOT0, 45 PB8, 46 PB9, 47 VSS_3, 48 VDD_3
text: STM32F103; LQPF48

## STM32F103RCT6
designator U?, comment STM32F103
footprint LQFP64
pins: 1 VBAT, 2 PC13-TAMPER-RTC, 3 PC14-OSC32_IN, 4 PC15-OSC32_OUT, 5 PD0/OSC_IN, 6 PD1/OSC_OUT, 7 NRST, 8 PC0, 9 PC1, 10 PC2, 11 PC3, 12 VSSA, 13 VDDA, 14 PA0-WKUP, 15 PA1, 16 PA2/TX2, 17 PA3/RX2, 18 VSS_4, 19 VDD_4, 20 PA4/SS1, 21 PA5/SCK1, 22 PA6/MISO1, 23 PA7/MOSI1, 24 PC4, 25 PC5, 26 PB0, 27 PB1, 28 PB2/BOOT1, 29 PB10/TX3/SCL2, 30 PB11/RX3/SDA2, 31 VSS_1, 32 VDD_1, 33 PB12/SS2, 34 PB13/SCK2, 35 PB14/MISO2, 36 PB15/MOSI2, 37 PC6, 38 PC7, 39 PC8, 40 PC9, 41 PA8, 42 PA9/TX1, 43 PA10/RX1, 44 PA11/USBD-, 45 PA12/USBD+, 46 SWDIO, 47 VSS_2, 48 VDD_2, 49 SWCLK, 50 PA15/SS3, 51 PC10/TX4, 52 PC11/RX4, 53 PC12/TX5, 54 PD2/RX5, 55 PB3/SCK3, 56 PB4/MISO3, 57 PB5/MOSI3, 58 PB6/SCL1, 59 PB7/SDA1, 60 BOOT0, 61 PB8, 62 PB9, 63 VSS_3, 64 VDD_3

## SW
designator SW, comment Switch  (value not drawn)
footprint SW 3 SS12f44
pins: 1, 2, 3

## SW 6 Pin
designator SW?, comment SW 6  (value not drawn)
footprint SW 6 DIP
pins: 1, 2, 3, 4, 5, 6

## SW-200D
designator SEN?, comment VIBRATION
footprint Header Shround 2p
pins: 1, 2

## SW_6_Pin
designator S?
MP: JS202011SCQN; Price: None; Availability: Unavailable; Value: *; Package: None
footprint SW_JS202011SCQN
pins: 1, 2, 3, 4, 5, 6

## SWITCH
designator SW?
footprint SWITCH
footprint Switch SK12D07
pins: 1, 2, 3

## Test_Point
designator TP?, comment TEST  (value not drawn)
footprint TEST
pins: 1

## TL341
designator U?, comment TL431  (value not drawn)
footprint SOT23-3
pins: 1 adj, 2 A, 3 K

## TL431 SOP8
designator U?, comment TL431
footprint SOIC 8 (8-Pin Small Outline Integrated Circuit 1.27 mm Pitch, IPC Medium Density)
pins: 1 K, 2, 3, 6 A, 7, 8 adj

## TP4056
designator IC?, comment TP056
footprint SOIC 8 (8-Pin Small Outline Integrated Circuit 1.27 mm Pitch, IPC Medium Density)
pins: 1 Temp, 2 Prog, 3 Gnd, 4 Vcc, 5 BAT, 6 STBy, 7 CHRG, 8 CE
text: GND

## TP4057
designator U?, comment 4057
footprint SOT23-6
pins: 1 ~{CHRG}, 2 GND, 3 BAT, 4 VCC, 5 ~{STBY}, 6 PROG

## TS3A44159
designator U?
footprint TSSOP16
pins: 1 NO2, 2 COM2, 3 NC2, 4 GND, 5 NO3, 6 COM3, 7 NC3, 8 IN3-4, 9 NO4, 10 COM4, 11 NC4, 12 VCC, 13 NO1, 14 COM1, 15 NC1, 16 IN1-2

## TS12A4515
designator U?  (value not drawn)
footprint TSSOP 14
pins: 1 NC1, 2 COM1, 3 NC2, 4 COM2, 5 IN2, 6 IN3, 7 GND, 8 NC3, 9 COM3, 10 COM4, 11 NC4, 12 IN4, 13 IN1, 14 V+

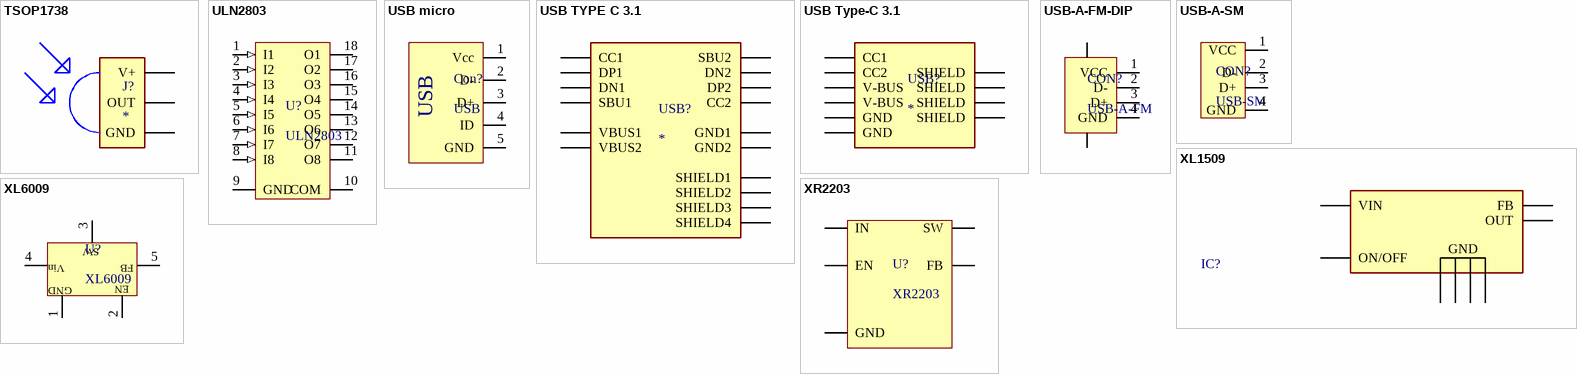
[diagram p4: symbols TSOP1738 to XR2203]

## TSOP1738
designator J?
IR Remote Receiver 38KHz 35m 3-Pin; MP: TSOP1738.; MF: Vishay; Check_prices: https://www.snapeda.com/parts/TSOP1738./Vishay/view-part/?ref=eda; Value: *; Availability: Not in stock; Price: None; Package: DIP-3 Vishay; SnapEDA_Link: https://www.snapeda.com/parts/TSOP1738./Vishay/view-part/?ref=snap
footprint TSOP17XX
pins: GND, OUT, V+

## ULN2803
designator U?
footprint SOP18
pins: 1 I1 (in), 2 I2 (in), 3 I3 (in), 4 I4 (in), 5 I5 (in), 6 I6 (in), 7 I7 (in), 8 I8 (in), 9 GND (power), 10 COM, 11 O8 (oc), 12 O7 (oc), 13 O6 (oc), 14 O5 (oc), 15 O4 (oc), 16 O3 (oc), 17 O2 (oc), 18 O1 (oc)

## USB micro
designator Con?, comment USB
footprint Micro USB
pins: 1 Vcc, 2 D-, 3 D+, 4 ID, 5 GND

## USB TYPE C 3.1
designator USB?
16P
footprint USB TYPE C 3.1 (16P)
pins: A1B12 GND1, A4B9 VBUS1, A5 CC1, A6 DP1, A7 DN1, A8 SBU1, B1A12 GND2, B4A9 VBUS2, B5 CC2, B6 DP2, B7 DN2, B8 SBU2, SH1 SHIELD1, SH2 SHIELD2, SH3 SHIELD3, SH4 SHIELD4

## USB Type-C 3.1
designator USB?
6P, SMD
footprint USB Type-C 3.1 (6P, SMD)
pins: A5 CC1, A9 V-BUS, A12 GND, B5 CC2, B9 V-BUS, B12 GND, S1 SHIELD, S2 SHIELD, S3 SHIELD, S4 SHIELD

## USB-A-FM-DIP
designator CON?, comment USB-A-FM
footprint USB-MINI dip
pins: 1 VCC, 2 D-, 3 D+, 4 GND, 5, 6

## USB-A-SM
designator CON?, comment USB-SM
footprint USBPCB
pins: 1 VCC, 2 D-, 3 D+, 4 GND

## XL1509
designator IC?  (value not drawn)
BUCK 5V; Supplier 1: DigiKey; Supplier Part Number 1: 4518-XL1509-ADJCT-ND
footprint SOIC-8_YTS
pins: 1 VIN, 2 OUT, 3 FB, 4 ON/OFF, 5 GND, 6 GND, 7 GND, 8 GND

## XL6009
designator U?
footprint TO263-5
pins: 1 GND, 2 EN, 3 SW, 4 VIN, 5 FB
text: Vin

## XR2203
designator U?
footprint SOT23-6
pins: 1 SW, 2 GND, 3 FB, 4 EN, 5 IN